# Altium footprint library SJ-43514-SMT-TR.PcbLib: 1 footprints
Each footprint in its own frame and in the unit in brackets; x right, y up, seen from the top. Pads: shape width x height; smd on the part's side, far side on the other; paste and mask are expansions set on the pad; w line width, h text height; cw(c..) or ccw(c..) is an arc to the next point about the centre after c.
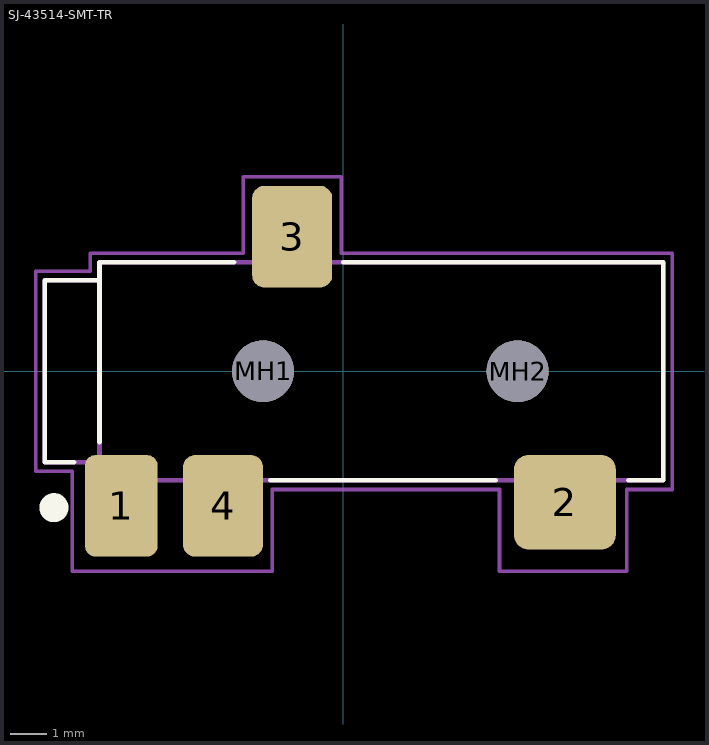
[diagram p0: the footprint, top view; thin cyan lines are the x and y axes]

## SJ-43514-SMT-TR [mm]
pads (6):
  rrect30% 2x2.8 smd paste-0.1 mask+0.05: 1(-6.1,-3.7)
  rrect30% 2.8x2.6 smd paste-0.1 mask+0.05: 2(6.1,-3.6)
  rrect30% 2.2x2.8 smd paste-0.1 mask+0.05: 3(-1.4,3.7) 4(-3.3,-3.7)
  round 1.7 hole 1.7 unplated: MH1(-2.2,0) MH2(4.8,0)
Top Overlay:
  circle w0.4: c-7.95,-3.75 r0.2
  lines w0.127: -7.4,-2.5 -8.2,-2.5 -8.2,2.5 -6.7,2.5 ; -6.7,-1.95 -6.7,2.5 ; -3,3 -6.7,3 -6.7,2.5 ; -2,-3 4.2,-3 ; 0,3 8.8,3 8.8,-3 7.85,-3
Top Assembly:
  lines w0.127: -6.7,-2.5 -6.7,-3 8.8,-3 8.8,3 -6.7,3 -6.7,2.5 ; -6.7,-2.5 -6.7,2.5 ; -6.7,-2.5 -8.2,-2.5 -8.2,2.5 -6.7,2.5
Top Courtyard:
  lines w0.1: -8.45,-2.75 -7.45,-2.75 -7.45,-5.5 -1.95,-5.5 -1.95,-3.25 4.3,-3.25 4.3,-5.5 7.8,-5.5 7.8,-3.25 9.05,-3.25 9.05,3.25 -0.05,3.25 -0.05,5.35 -2.75,5.35 -2.75,3.25 -6.95,3.25 -6.95,2.75 -8.45,2.75 -8.45,-2.75
3D body "CUI_DEVICES_SJ-43514-SMT-TR.step": height 5.1, standoff -0.7, extent -8.397,-4.5 8.803,4.5